# Altium integrated library LEDs.IntLib: 7 symbols
Pins are listed as number, name and electrical type; pins without a type are passive.

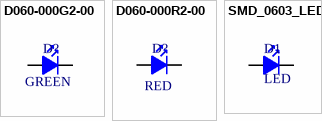
[diagram p0: symbols D060-000G2-00 to SMD_0603_LED]

## D060-000G2-00
designator D?  Color: GREEN  (hidden comment: D060-000G2-00)
LED 0603 GREEN 3.2Vf 20mA; Supplier 1: Digi-Key; Supplier Part Number 1: 732-4971-1-ND
footprint SMD_0603_LED
pins: 1 K, 2 A

## D060-000R2-00
designator D?  Color: RED  (hidden comment: D060-000R2-00)
LED 0603 RED 2Vf 20mA; Supplier 1: Digi-Key; Supplier Part Number 1: 732-4978-1-ND
footprint SMD_0603_LED
pins: 1 K, 2 A

## SMD_0603_LED
designator D1, comment LED
footprint SMD_0603_LED
pins: 1 K, 2 A


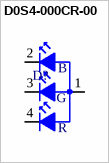
[diagram p1: symbol D0S4-000CR-00]

## D0S4-000CR-00
designator D?  (value not drawn)
LED 4SMD RGB 2Vf 3Vf 3Vf 20mA 10mA 10mA; Supplier 1: Digi-Key; Supplier Part Number 1: CLMVB-FKA-CFHEHLCBB7A363CT-ND; Color: RGB
footprint CLMVB-FKA (LED RGB DIFFUSED 4SMD)
pins: 1 Red, 2 Green, 3 Blue, 4
text: B; G; R


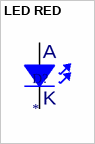
[diagram p2: symbol LED RED]

## LED RED
designator D?
footprint RED LED
pins: 1, 2
text: A; K


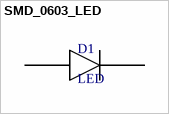
[diagram p3: symbol SMD_0603_LED]

## SMD_0603_LED
designator D1, comment LED
footprint SMD_0603_LED
pins: 1, 2


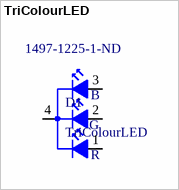
[diagram p4: symbol TriColourLED]

## TriColourLED
designator D1  Supplier Part Number 1: 1497-1225-1-ND
Supplier 1: Digi-Key
footprint TricolourLED - SunLED
pins: 1 Red, 2 Green, 3 Blue, 4
text: B; G; R